# Altium integrated library XE_BIA.IntLib: 32 symbols
Pins are listed as number, name and electrical type; pins without a type are passive.

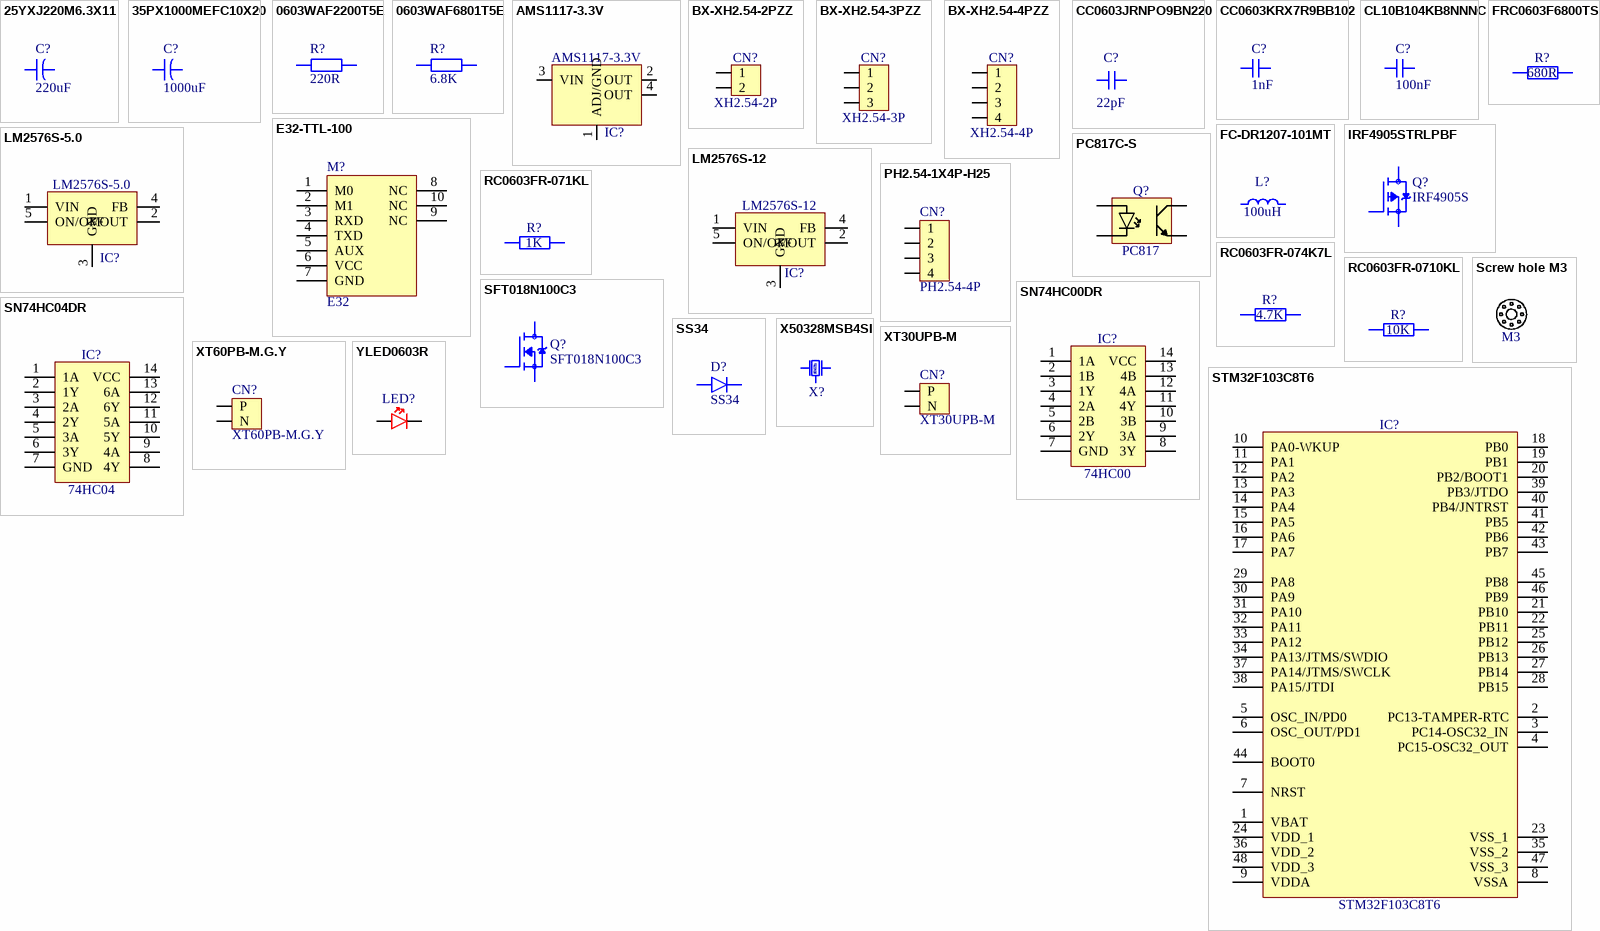
[diagram p0: symbols 25YXJ220M6.3X11 to YLED0603R]

## 25YXJ220M6.3X11
designator C?, comment 220uF
220uF 25V Aluminum Electrolytic Capacitors Through Hole,D6.3xL11mm 7000hrs@105℃; Manufacturer: Rubycon; Mfr.Part #: 25YXJ220M6.3X11; Package: Through Hole,D6.3xL11mm; LCSC Part #: C88729; DigiKey Part Number: 1189-2913-ND; ComponentLink1Description: Link; ComponentLink1URL: https://www.lcsc.com/product-detail/C88729.html; ComponentLink2Description: Link 1; ComponentLink2URL: https://www.digikey.com/en/products/detail/rubycon/25YXJ220M6-3X11/3563124?s=N4IgTCBcDa4KwE0AaApMYAMBZAbAOgGYkBGYkAXQF8g
footprint PLUGIN,D6.3xL12mm
pins: 1, 2

## 35PX1000MEFC10X20
designator C?, comment 1000uF
1000uF 35V Aluminum Electrolytic Capacitors Through Hole,D10xL20mm 2000hrs@105℃; Manufacturer: Rubycon; Mfr.Part #: 35PX1000MEFC10X20; So_Chan_Cam: 2; LCSC Part #: C136014; Package: Through Hole,D10xL20mm; DigiKey Part Number: 1189-1745-ND; ComponentLink1Description: Link; ComponentLink1URL: https://www.lcsc.com/product-detail/C136014.html?s_z=n_35PX1000MEFC10X20; ComponentLink2Description: Link 1; ComponentLink2URL: https://www.digikey.com/en/products/detail/rubycon/35PX1000MEFC10X20/3563769?s=N4IgTCBcDaIMwFYAKANAjABiwWQKIDEBhTFMDEAXQF8g
footprint Plugin,D10xL20mm
pins: 1, 2

## 0603WAF2200T5E
designator R?, comment 220R
220Ω ±1% 100mW 0603 Thick Film Resistor; Manufacturer: UNI-ROYAL; Mfr.Part #: 0603WAF2200T5E; Package: 0603; LCSC Part #: C22962; DigiKey Part Number: NO; ComponentLink1Description: Link; ComponentLink1URL: https://www.lcsc.com/product-detail/C22962.html?s_z=n_0603waf22; ComponentLink2Description: Link 1
footprint RES-0603
footprint RES-0603-1
pins: 1, 2

## 0603WAF6801T5E
designator R?, comment 6.8K
6.8kΩ ±1% 100mW 0603 Thick Film Resistor; Manufacturer: UNI-ROYAL; Mfr.Part #: 0603WAF6801T5E; Package: 0603; LCSC Part #: C23212; DigiKey Part Number: NO; ComponentLink1Description: Link; ComponentLink1URL: https://www.lcsc.com/product-detail/C23212.html?s_z=n_C23212; ComponentLink2Description: Link 1
footprint RES-0603
footprint RES-0603-1
pins: 1, 2

## AMS1117-3.3V
designator IC?
Linear Voltage Regulator IC Positive Fixed 1 Output 1A SOT-223; Manufacturer: MSKSEMI; Mfr.Part #: AMS1117-3.3V; Package: SOT-223; LCSC Part #: C5120765; DigiKey Part Number: NO; ComponentLink1Description: Link; ComponentLink1URL: https://www.lcsc.com/product-detail/C5120765.html?s_z=n_C5120765
footprint SOT-223
pins: 1 ADJ/GND, 2 OUT, 3 VIN, 4 OUT

## BX-XH2.54-2PZZ
designator CN?, comment XH2.54-2P
Connector Header 2 position 2.5mm Pitch 3A Through Hole -25℃~+85℃; Manufacturer: Bossie; Mfr.Part #: BX-XH2.54-2PZZ; LCSC Part #: C18077833; Package: Through Hole,P=2.5mm; DigiKey Part Number: NO; ComponentLink1Description: Link; ComponentLink1URL: https://www.lcsc.com/product-detail/C18077833.html?s_z=n_BX-XH2.54-2PZZ
footprint Plugin,P=2.54mm,2P
pins: 1, 2

## BX-XH2.54-3PZZ
designator CN?, comment XH2.54-3P
Connector Header 3 position 2.5mm Pitch 3A Through Hole -25℃~+85℃; Manufacturer: Bossie; Mfr.Part #: BX-XH2.54-3PZZ; LCSC Part #: C18077834; Package: Through Hole,P=2.5mm; DigiKey Part Number: NO; ComponentLink1Description: Link; ComponentLink1URL: https://www.lcsc.com/product-detail/C18077834.html?s_z=n_BX-XH2.54-3PZZ
footprint Plugin,P=2.54mm,3P
pins: 1, 2, 3

## BX-XH2.54-4PZZ
designator CN?, comment XH2.54-4P
Connector Header 4 position 2.5mm Pitch 3A Through Hole -25℃~+85℃; Manufacturer: Bossie; Mfr.Part #: BX-XH2.54-4PZZ; LCSC Part #: C18077835; Package: Through Hole,P=2.5mm; DigiKey Part Number: NO; ComponentLink1Description: Link; ComponentLink1URL: https://www.lcsc.com/product-detail/C18077835.html?s_z=n_BX-XH2.54-4PZZ
footprint Plugin,P=2.54mm,4P
pins: 1, 2, 3, 4

## CC0603JRNPO9BN220
designator C?, comment 22pF
22pF ±5% 50V Ceramic Capacitor NP0 0603; Manufacturer: YAGEO; Mfr.Part #: CC0603JRNPO9BN220; Package: 0603; LCSC Part #: C105620; DigiKey Part Number: 311-1062-2-ND; ComponentLink1Description: Link; ComponentLink1URL: https://www.lcsc.com/product-detail/C105620.html?s_z=n_CC0603JRNPO9BN220; ComponentLink2Description: Link 1; ComponentLink2URL: https://www.digikey.com/en/products/detail/yageo/CC0603JRNPO9BN220/302796?s=N4IgTCBcDaIMJwAwDZEGYBSAlAcgBQHkBOAIRzDERAF0BfIA
footprint CAP-0603
footprint CAP-0603-3
footprint CAP-0603-2
pins: 1, 2

## CC0603KRX7R9BB102
designator C?, comment 1nF
1nF ±10% 50V Ceramic Capacitor X7R 0603; Manufacturer: YAGEO; Mfr.Part #: CC0603KRX7R9BB102; Package: 0603; LCSC Part #: C100040; DigiKey Part Number: 311-1080-2-ND; ComponentLink1Description: Link; ComponentLink1URL: https://www.lcsc.com/product-detail/C100040.html?s_z=n_C100040; ComponentLink2Description: Link 1; ComponentLink2URL: https://www.digikey.com/en/products/detail/yageo/CC0603KRX7R9BB102/302814?s=N4IgTCBcDaIMJwAwDZEGYDSAlAGgdiwE4AhYgRkQgF0BfIA
footprint CAP-0603
footprint CAP-0603-2
pins: 1, 2

## CL10B104KB8NNNC
designator C?, comment 100nF
100nF ±10% 50V Ceramic Capacitor X7R 0603; Manufacturer: Samsung Electro-Mechanics; Mfr.Part #: CL10B104KB8NNNC; Package: 0603; LCSC Part #: C1591; DigiKey Part Number: 1276-1000-2-ND; ComponentLink1Description: Link; ComponentLink1URL: https://www.lcsc.com/product-detail/C1591.html?s_z=n_CL10B104KB8NNC; ComponentLink2Description: Link 1; ComponentLink2URL: https://www.digikey.com/en/products/detail/samsung-electro-mechanics/CL10B104KB8NNNC/3886658?s=N4IgTCBcDaIMIBkCMAGAQqgLAaTQDgDki4QBdAXyA
footprint CAP-0603
footprint CAP-0603-3
footprint CAP-0603-2
pins: 1, 2

## E32-TTL-100
designator M?, comment E32
E32-TTL-100 is a 100mW wireless transceiver module with LoRa / spread-spectrum technology, operates at 410~441MHz (Default: 433MHz), based on original imported RFIC SX1278 from SEMTECH; Manufacturer: Chengdu Ebyte Electronic; Mfr.Part #: E32-TTL-100; Package: Through Hole,P=2.54mm; LCSC Part #: NO; DigiKey Part Number: NO; ComponentLink1Description: Link; ComponentLink1URL: https://nshopvn.com/product/module-rf-sx1278-lora-e32/
footprint E32-TTL-100
pins: 1 M0, 2 M1, 3 RXD, 4 TXD, 5 AUX, 6 VCC, 7 GND, 8 NC, 9 NC, 10 NC

## FC-DR1207-101MT
designator L?, comment 100uH
3A 100uH ±20% 175mΩ 3.5A SMD,12.5x12.5mm Fixed Inductors RoHS; Manufacturer: FANGCHENG; Mfr.Part #: FC-DR1207-101MT; LCSC Part #: C5368704; Package: SMD,12.5x12.5mm; DigiKey Part Number: NO; ComponentLink1Description: Link; ComponentLink1URL: https://www.lcsc.com/product-detail/C5368704.html?s_z=n_FC-DR1207-101MT; ComponentLink2Description: Link 1
footprint SMD,12.5x12.5x8mm
pins: 1, 2

## FRC0603F6800TS
designator R?, comment 680R
680Ω ±1% 100mW 0603 Thick Film Resistor; Manufacturer: FOJAN; Mfr.Part #: FRC0603F6800TS; Package: 0603; LCSC Part #: C2907062; DigiKey Part Number: NO; ComponentLink1Description: Link; ComponentLink1URL: https://www.lcsc.com/product-detail/C2907062.html?s_z=n_680r; ComponentLink2Description: Link 1
footprint RES-0603
footprint RES-0603-1
pins: 1, 2

## IRF4905STRLPBF
designator Q?, comment IRF4905S
P-Channel 55V 70A 170W Surface Mount D2PAK; Manufacturer: Infineon; Mfr.Part #: IRF4905STRLPBF; Package: D2PAK; LCSC Part #: C2620; DigiKey Part Number: IRF4905STRLPBFTR-ND; ComponentLink1Description: Link; ComponentLink1URL: https://www.lcsc.com/product-detail/C2620.html?s_z=n_IRF4905S; ComponentLink2Description: Link 1; ComponentLink2URL: https://www.digikey.com/en/products/detail/infineon-technologies/IRF4905STRLPBF/1928283?s=N4IgTCBcDaIJICUBiAWAnABgKwGUAqCAMgAoBCSIAugL5A
footprint TO-263
pins: 1 G, 2 D, 3 S

## LM2576S-5.0
designator IC?
47kHz~58kHz Buck Adjustable 3.5A 5V TO-263-5L Voltage Regulators - DC DC Switching Regulators RoHS; Manufacturer: HXY MOSFET; Mfr.Part #: LM2576S-5.0; Package: TO-263-5L; LCSC Part #: C5349983; DigiKey Part Number: NO; ComponentLink1Description: Link; ComponentLink1URL: https://www.lcsc.com/product-detail/C5349983.html?s_z=n_LM2576S-5.0; ComponentLink2Description: Link 1
footprint TO-263-5L
pins: 1 VIN, 2 VOUT, 3 GND, 4 FB, 5 ON/OFF

## LM2576S-12
designator IC?
Buck Switching Regulator IC Fixed 12V 1 Output 3A TO-263-5L; Manufacturer: HXY MOSFET; Mfr.Part #: LM2576S-12; Package: TO-263-5L; LCSC Part #: C22386541; DigiKey Part Number: NO
footprint TO-263-5L
pins: 1 VIN, 2 VOUT, 3 GND, 4 FB, 5 ON/OFF

## PC817C-S
designator Q?, comment PC817
Phototransistor Output 5kVrms 1 Channel SOP-4-2.54mm; Manufacturer: UMW; Mfr.Part #: PC817C-S; Package: SOP-4-2.54mm; LCSC Part #: C3008369; DigiKey Part Number: NO; ComponentLink1Description: Link; ComponentLink1URL: https://www.lcsc.com/product-detail/C3008369.html?s_z=n_C3008369; ComponentLink2Description: Link 1
footprint SOP-4
pins: 1 A, 2 K, 3 E, 4 C

## PH2.54-1X4P-H25
designator CN?, comment PH2.54-4P
Pin Header 4 Position 2.54mm Pitch Single Row Through Hole -40℃~+105℃; Manufacturer: JXTCONN; Mfr.Part #: PH2.54-1X4P-H25; DigiKey Part Number: NO; Package: Plugin,P=2.54mm; LCSC Part #: C42431808
footprint Plugin,P=2.54mm,4P,Pin Headers
pins: 1, 2, 3, 4

## RC0603FR-071KL
designator R?, comment 1K
100mW 1kΩ 75V Thick Film Resistor ±100ppm/℃ ±1% 0603 Chip Resistor - Surface Mount RoHS; Manufacturer: YAGEO; Mfr.Part #: RC0603FR-071KL; Package: 0603; LCSC Part #: C22548; DigiKey Part Number: 311-1.00KHRTR-ND; ComponentLink1Description: Link; ComponentLink1URL: https://www.lcsc.com/product-detail/C22548.html?s_z=n_C22548; ComponentLink2Description: Link 1; ComponentLink2URL: https://www.digikey.com/en/products/detail/yageo/RC0603FR-071KL/726843?s=N4IgTCBcDaIEoGEAMA2JBmAYnAtEg7AIwDSAMiALoC%2BQA
footprint RES-0603
footprint RES-0603-1
pins: 1, 2

## RC0603FR-074K7L
designator R?, comment 4.7K
100mW 4.7kΩ 75V Thick Film Resistor ±100ppm/℃ ±1% 0603 Chip Resistor - Surface Mount RoHS; Manufacturer: YAGEO; Mfr.Part #: RC0603FR-074K7L; Package: 0603; LCSC Part #: C99782; DigiKey Part Number: 311-4.70KHRTR-ND; ComponentLink1Description: Link; ComponentLink1URL: https://www.lcsc.com/product-detail/C99782.html?s_z=n_4.7K; ComponentLink2Description: Link 1; ComponentLink2URL: https://www.digikey.com/en/products/detail/yageo/RC0603FR-074K7L/727212?s=N4IgTCBcDaIEoGEAMA2JBmAYnAtEg7ACwDS%2BAMiALoC%2BQA
footprint RES-0603
footprint RES-0603-1
pins: 1, 2

## RC0603FR-0710KL
designator R?, comment 10K
100mW 10kΩ 75V Thick Film Resistor ±100ppm/℃ ±1% 0603 Chip Resistor - Surface Mount RoHS; Manufacturer: YAGEO; Mfr.Part #: RC0603FR-0710KL; Package: 0603; LCSC Part #: C98220; DigiKey Part Number: 311-10.0KHRTR-ND; ComponentLink1Description: Link; ComponentLink1URL: https://www.lcsc.com/product-detail/C98220.html?s_z=n_C98220; ComponentLink2Description: Link 1; ComponentLink2URL: https://www.digikey.com/en/products/detail/yageo/RC0603FR-0710KL/726880?s=N4IgTCBcDaIMwEYEFoEAYB0aDSAJASgCr7IByAIiALoC%2BQA
footprint RES-0603
footprint RES-0603-1
pins: 1, 2

## Screw hole M3
designator 1?, comment M3
footprint Screw hole M3

## SFT018N100C3
designator Q?
N-Channel 100V 320A 312W Surface Mount TOLL; Manufacturer: SCILICON; Package: TOLL; Mfr.Part #: SFT018N100C3; LCSC Part #: C42395330; DigiKey Part Number: NO; ComponentLink1Description: Link; ComponentLink1URL: https://www.lcsc.com/product-detail/C42395330.html?s_z=n_c42395330; ComponentLink2Description: Link 1
footprint TOLL
pins: 1 G, 2 S, 3 D

## SN74HC00DR
designator IC?, comment 74HC00
2uA 2V~6V 15ns@6V,50pF SOIC-14 Gates and Inverters RoHS; Manufacturer: TI; Mfr.Part #: SN74HC00DR; Package: SOIC-14; LCSC Part #: C10090; DigiKey Part Number: 296-1187-2-ND; ComponentLink1Description: Link; ComponentLink1URL: https://www.lcsc.com/product-detail/C10090.html?s_z=n_74hc00; ComponentLink2Description: Link 1; ComponentLink2URL: https://www.digikey.com/en/products/detail/texas-instruments/SN74HC00DR/276830
footprint SOP-14
pins: 1 1A, 2 1B, 3 1Y, 4 2A, 5 2B, 6 2Y, 7 GND, 8 3Y, 9 3A, 10 3B, 11 4Y, 12 4A, 13 4B, 14 VCC

## SN74HC04DR
designator IC?, comment 74HC04
2V~6V 16ns@6V,50pF 2uA 6 1 SOIC-14 Gates and Inverters RoHS; Manufacturer: TI; Mfr.Part #: SN74HC04DR; Package: SOIC-14; LCSC Part #: C6811; DigiKey Part Number: 296-1189-2-ND; ComponentLink1Description: Link; ComponentLink1URL: https://www.lcsc.com/product-detail/C6811.html?s_z=n_74HC04; ComponentLink2Description: Link 1; ComponentLink2URL: https://www.digikey.com/en/products/detail/texas-instruments/SN74HC04DR/276832
footprint SOP-14
pins: 1 1A, 2 1Y, 3 2A, 4 2Y, 5 3A, 6 3Y, 7 GND, 8 4Y, 9 4A, 10 5Y, 11 5A, 12 6Y, 13 6A, 14 VCC

## SS34
designator D?
Diode Independent 40V 3A Surface Mount SMA(DO-214AC); Manufacturer: GOODWORK; Mfr.Part #: SS34; Package: SMA(DO-214AC); LCSC Part #: C908680; DigiKey Part Number: NO; ComponentLink1Description: Link; ComponentLink1URL: https://www.lcsc.com/product-detail/C908680.html?s_z=n_C908680
footprint SMA(DO-214AC)
footprint SMA(DO-214AC) - 2
pins: 1 A, 2 K

## STM32F103C8T6
designator IC?
ARM Cortex-M3 32 Bit 72MHz 37 LQFP-48(7x7) Microcontrollers RoHS; Manufacturer: ST; Mfr.Part #: STM32F103C8T6; Package: LQFP-48(7x7); LCSC Part #: C8734; DigiKey Part Number: 497-6063-ND; ComponentLink1Description: Link; ComponentLink1URL: https://www.lcsc.com/product-detail/C8734.html?s_z=n_STM32F103C8T6; ComponentLink2Description: Link 1; ComponentLink2URL: https://www.digikey.com/en/products/detail/stmicroelectronics/STM32F103C8T6/1646338
footprint LQFP-48(7x7)
pins: 1 VBAT, 2 PC13-TAMPER-RTC, 3 PC14-OSC32_IN, 4 PC15-OSC32_OUT, 5 OSC_IN/PD0, 6 OSC_OUT/PD1, 7 NRST, 8 VSSA, 9 VDDA, 10 PA0-WKUP, 11 PA1, 12 PA2, 13 PA3, 14 PA4, 15 PA5, 16 PA6, 17 PA7, 18 PB0, 19 PB1, 20 PB2/BOOT1, 21 PB10, 22 PB11, 23 VSS_1, 24 VDD_1, 25 PB12, 26 PB13, 27 PB14, 28 PB15, 29 PA8, 30 PA9, 31 PA10, 32 PA11, 33 PA12, 34 PA13/JTMS/SWDIO, 35 VSS_2, 36 VDD_2, 37 PA14/JTMS/SWCLK, 38 PA15/JTDI, 39 PB3/JTDO, 40 PB4/JNTRST, 41 PB5, 42 PB6, 43 PB7, 44 BOOT0, 45 PB8, 46 PB9, 47 VSS_3, 48 VDD_3

## X50328MSB4SI
designator X?, comment 8MHz  (value not drawn)
Crystal 8MHz ±10ppm 20pF SMD5032-4P; Manufacturer: YXC Crystal Oscillators; Mfr.Part #: X50328MSB4SI; Package: SMD5032-4P; LCSC Part #: C157341; DigiKey Part Number: NO; ComponentLink1Description: Link; ComponentLink1URL: https://www.lcsc.com/product-detail/C157341.html?s_z=n_c157341; ComponentLink2Description: Link 1
footprint SMD5032-4P
pins: 1, 2 GND, 3, 4 GND

## XT30UPB-M
designator CN?
Banana and Tip Connector Adapters; Manufacturer: Changzhou Amass Elec; Mfr.Part #: XT30PW-M30.G.Y; LCSC Part #: C428721; Package: Through Hole; DigiKey Part Number: NO; ComponentLink1Description: Link; ComponentLink1URL: https://www.lcsc.com/product-detail/C431092.html?s_z=n_xt30; ComponentLink2Description: Link 1
footprint XT30UPB-M
pins: 1 P, 2 N

## XT60PB-M.G.Y
designator CN?
Power Connectors RoHS; Manufacturer: Changzhou Amass Elec; Mfr.Part #: XT60PB-M.G.Y; LCSC Part #: C19268037; Package: Through Hole; DigiKey Part Number: NO; ComponentLink1Description: Link; ComponentLink1URL: https://www.lcsc.com/product-detail/C19268037.html?s_z=n_xt60; ComponentLink2Description: Link 1
footprint XT60PB-M.G.Y
pins: 1 P, 2 N

## YLED0603R
designator LED?, comment RED  (value not drawn)
25mA 1.8V~2.4V Red 0603 LED Indication - Discrete ROHS; Manufacturer: YONGYUTAI; Mfr.Part #: YLED0603R; Package: 0603; LCSC Part #: C19171390; DigiKey Part Number: NO; ComponentLink1Description: Link; ComponentLink1URL: https://www.lcsc.com/product-detail/C19171390.html?s_z=n_C19171390; ComponentLink2Description: Link 1
footprint LED-0603
pins: 1 A, 2 K